# Altium integrated library NXP Microcontrollers ARM7.IntLib: 82 symbols (part 10 of 11)
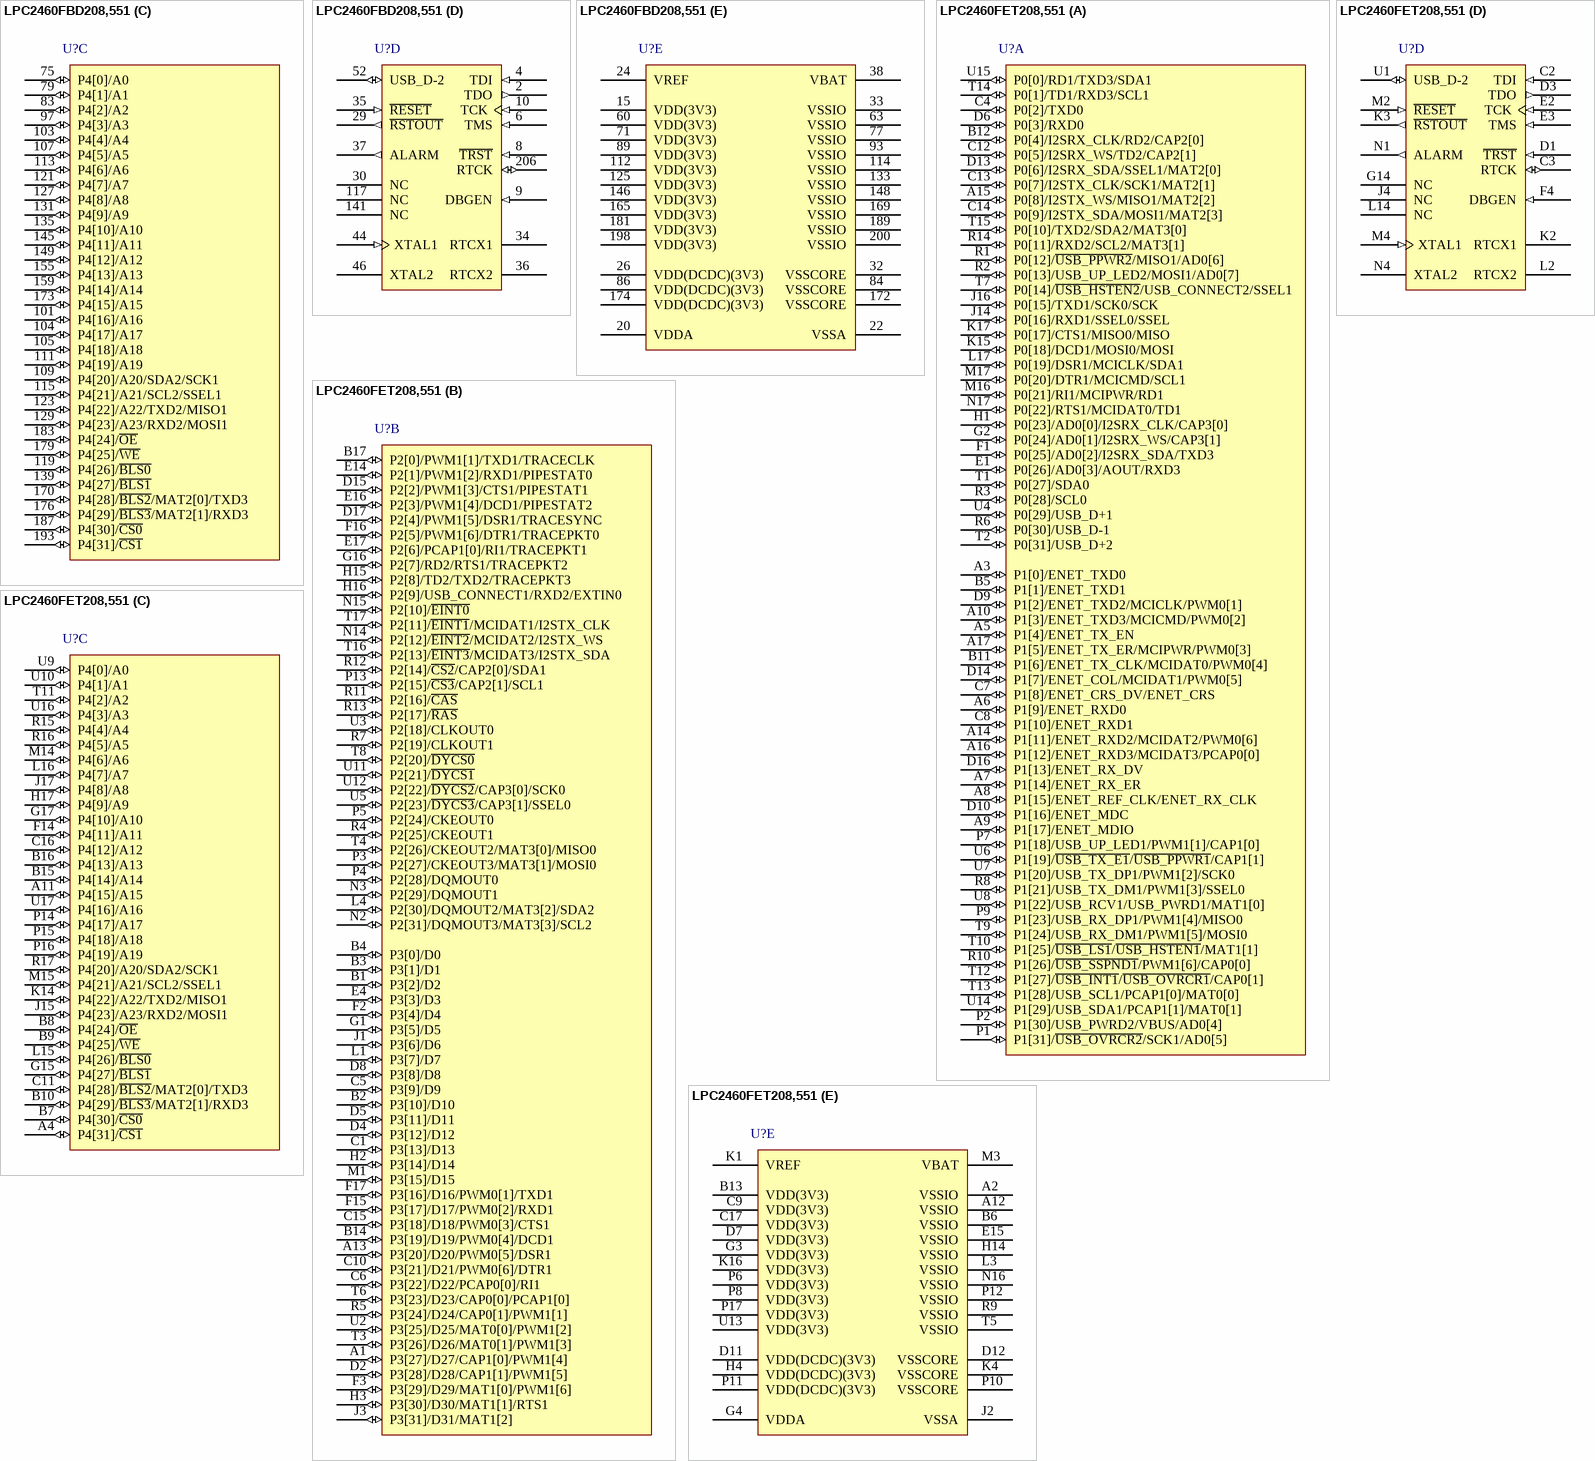
[diagram p44: symbols LPC2460FBD208,551 to LPC2460FET208,551]

## LPC2460FET208,551
designator U?
16/32-bit ARM7 Microcontroller, 160 I/O, 98 kB RAM, -40 to 85 degC, 208-Ball TFBGA, Tray; Manufacturer: NXP Semiconductors; PartNumber: LPC2460FET208,551; # of timers: 4; ADC (bits): 10; ADC Channels: 8; CAN: 2; Ethernet: 1; fmax [max] (MHz): 72; I/O Pins: 160; I2C: 3; PLL: Y; PWM: 12; RAM (KB): 98; Timer (bits): 32; DatasheetVersion: Rev. 6.2; PackageVersion: Jun-06; PackageReference: SOT950-1; PackageDescription: 208-Ball Plastic Thin Fine-Pitch Ball Grid Array Package, Body 15 x 15 mm, Pitch 0.8 mm; Supplier 1: Digi-Key; Supplier Part Number 1: 568-4260-ND; Supplier 2: Mouser; Supplier Part Number 2: 771-LPC2460FET208-S; Core: ARM7; Packing: Tray; SPI: 1; SSP: 2; UART: 4; USB: 2; Mounting Technology: Surface Mount; ComponentLink1Description: Manufacturer URL; ComponentLink1URL: http://www.nxp.com/; ComponentLink2Description: Datasheet; ComponentLink2URL: http://www.nxp.com/documents/data_sheet/LPC2420_60.pdf; ComponentLink3Description: Package Specification; ComponentLink3URL: http://www.nxp.com/documents/outline_drawing/sot950-1_po.pdf
footprint NXP-SOT950-1_V (BGA, 208-Balls, Body 15x15mm, Pitch 0.8mm)
part A pins: A3 P1[0]/ENET_TXD0 (io), A5 P1[4]/ENET_TX_EN (io), A6 P1[9]/ENET_RXD0 (io), A7 P1[14]/ENET_RX_ER (io), A8 P1[15]/ENET_REF_CLK/ENET_RX_CLK (io), A9 P1[17]/ENET_MDIO (io), A10 P1[3]/ENET_TXD3/MCICMD/PWM0[2] (io), A14 P1[11]/ENET_RXD2/MCIDAT2/PWM0[6] (io), A15 P0[8]/I2STX_WS/MISO1/MAT2[2] (io), A16 P1[12]/ENET_RXD3/MCIDAT3/PCAP0[0] (io), A17 P1[5]/ENET_TX_ER/MCIPWR/PWM0[3] (io), B5 P1[1]/ENET_TXD1 (io), B11 P1[6]/ENET_TX_CLK/MCIDAT0/PWM0[4] (io), B12 P0[4]/I2SRX_CLK/RD2/CAP2[0] (io), C4 P0[2]/TXD0 (io), C7 P1[8]/ENET_CRS_DV/ENET_CRS (io), C8 P1[10]/ENET_RXD1 (io), C12 P0[5]/I2SRX_WS/TD2/CAP2[1] (io), C13 P0[7]/I2STX_CLK/SCK1/MAT2[1] (io), C14 P0[9]/I2STX_SDA/MOSI1/MAT2[3] (io), D6 P0[3]/RXD0 (io), D9 P1[2]/ENET_TXD2/MCICLK/PWM0[1] (io), D10 P1[16]/ENET_MDC (io), D13 P0[6]/I2SRX_SDA/SSEL1/MAT2[0] (io), D14 P1[7]/ENET_COL/MCIDAT1/PWM0[5] (io), D16 P1[13]/ENET_RX_DV (io), E1 P0[26]/AD0[3]/AOUT/RXD3 (io), F1 P0[25]/AD0[2]/I2SRX_SDA/TXD3 (io), G2 P0[24]/AD0[1]/I2SRX_WS/CAP3[1] (io), H1 P0[23]/AD0[0]/I2SRX_CLK/CAP3[0] (io), J14 P0[16]/RXD1/SSEL0/SSEL (io), J16 P0[15]/TXD1/SCK0/SCK (io), K15 P0[18]/DCD1/MOSI0/MOSI (io), K17 P0[17]/CTS1/MISO0/MISO (io), L17 P0[19]/DSR1/MCICLK/SDA1 (io), M16 P0[21]/RI1/MCIPWR/RD1 (io), M17 P0[20]/DTR1/MCICMD/SCL1 (io), N17 P0[22]/RTS1/MCIDAT0/TD1 (io), P1 P1[31]/~{USB_OVRCR2}/SCK1/AD0[5] (io), P2 P1[30]/USB_PWRD2/VBUS/AD0[4] (io), P7 P1[18]/USB_UP_LED1/PWM1[1]/CAP1[0] (io), P9 P1[23]/USB_RX_DP1/PWM1[4]/MISO0 (io), R1 P0[12]/~{USB_PPWR2}/MISO1/AD0[6] (io), R2 P0[13]/USB_UP_LED2/MOSI1/AD0[7] (io), R3 P0[28]/SCL0 (io), R6 P0[30]/USB_D-1 (io), R8 P1[21]/USB_TX_DM1/PWM1[3]/SSEL0 (io), R10 P1[26]/~{USB_SSPND1}/PWM1[6]/CAP0[0] (io), R14 P0[11]/RXD2/SCL2/MAT3[1] (io), T1 P0[27]/SDA0 (io), T2 P0[31]/USB_D+2 (io), T7 P0[14]/~{USB_HSTEN2}/USB_CONNECT2/SSEL1 (io), T9 P1[24]/USB_RX_DM1/PWM1[5]/MOSI0 (io), T10 P1[25]/~{USB_LS1}/~{USB_HSTEN1}/MAT1[1] (io), T12 P1[27]/~{USB_INT1}/~{USB_OVRCR1}/CAP0[1] (io), T13 P1[28]/USB_SCL1/PCAP1[0]/MAT0[0] (io), T14 P0[1]/TD1/RXD3/SCL1 (io), T15 P0[10]/TXD2/SDA2/MAT3[0] (io), U4 P0[29]/USB_D+1 (io), U6 P1[19]/~{USB_TX_E1}/~{USB_PPWR1}/CAP1[1] (io), U7 P1[20]/USB_TX_DP1/PWM1[2]/SCK0 (io), U8 P1[22]/USB_RCV1/USB_PWRD1/MAT1[0] (io), U14 P1[29]/USB_SDA1/PCAP1[1]/MAT0[1] (io), U15 P0[0]/RD1/TXD3/SDA1 (io)
part B pins: A1 P3[27]/D27/CAP1[0]/PWM1[4] (io), A13 P3[20]/D20/PWM0[5]/DSR1 (io), B1 P3[2]/D2 (io), B2 P3[10]/D10 (io), B3 P3[1]/D1 (io), B4 P3[0]/D0 (io), B14 P3[19]/D19/PWM0[4]/DCD1 (io), B17 P2[0]/PWM1[1]/TXD1/TRACECLK (io), C1 P3[13]/D13 (io), C5 P3[9]/D9 (io), C6 P3[22]/D22/PCAP0[0]/RI1 (io), C10 P3[21]/D21/PWM0[6]/DTR1 (io), C15 P3[18]/D18/PWM0[3]/CTS1 (io), D2 P3[28]/D28/CAP1[1]/PWM1[5] (io), D4 P3[12]/D12 (io), D5 P3[11]/D11 (io), D8 P3[8]/D8 (io), D15 P2[2]/PWM1[3]/CTS1/PIPESTAT1 (io), D17 P2[4]/PWM1[5]/DSR1/TRACESYNC (io), E4 P3[3]/D3 (io), E14 P2[1]/PWM1[2]/RXD1/PIPESTAT0 (io), E16 P2[3]/PWM1[4]/DCD1/PIPESTAT2 (io), E17 P2[6]/PCAP1[0]/RI1/TRACEPKT1 (io), F2 P3[4]/D4 (io), F3 P3[29]/D29/MAT1[0]/PWM1[6] (io), F15 P3[17]/D17/PWM0[2]/RXD1 (io), F16 P2[5]/PWM1[6]/DTR1/TRACEPKT0 (io), F17 P3[16]/D16/PWM0[1]/TXD1 (io), G1 P3[5]/D5 (io), G16 P2[7]/RD2/RTS1/TRACEPKT2 (io), H2 P3[14]/D14 (io), H3 P3[30]/D30/MAT1[1]/RTS1 (io), H15 P2[8]/TD2/TXD2/TRACEPKT3 (io), H16 P2[9]/USB_CONNECT1/RXD2/EXTIN0 (io), J1 P3[6]/D6 (io), J3 P3[31]/D31/MAT1[2] (io), L1 P3[7]/D7 (io), L4 P2[30]/DQMOUT2/MAT3[2]/SDA2 (io), M1 P3[15]/D15 (io), N2 P2[31]/DQMOUT3/MAT3[3]/SCL2 (io), N3 P2[29]/DQMOUT1 (io), N14 P2[12]/~{EINT2}/MCIDAT2/I2STX_WS (io), N15 P2[10]/~{EINT0} (io), P3 P2[27]/CKEOUT3/MAT3[1]/MOSI0 (io), P4 P2[28]/DQMOUT0 (io), P5 P2[24]/CKEOUT0 (io), P13 P2[15]/~{CS3}/CAP2[1]/SCL1 (io), R4 P2[25]/CKEOUT1 (io), R5 P3[24]/D24/CAP0[1]/PWM1[1] (io), R7 P2[19]/CLKOUT1 (io), R11 P2[16]/~{CAS} (io), R12 P2[14]/~{CS2}/CAP2[0]/SDA1 (io), R13 P2[17]/~{RAS} (io), T3 P3[26]/D26/MAT0[1]/PWM1[3] (io), T4 P2[26]/CKEOUT2/MAT3[0]/MISO0 (io), T6 P3[23]/D23/CAP0[0]/PCAP1[0] (io), T8 P2[20]/~{DYCS0} (io), T16 P2[13]/~{EINT3}/MCIDAT3/I2STX_SDA (io), T17 P2[11]/~{EINT1}/MCIDAT1/I2STX_CLK (io), U2 P3[25]/D25/MAT0[0]/PWM1[2] (io), U3 P2[18]/CLKOUT0 (io), U5 P2[23]/~{DYCS3}/CAP3[1]/SSEL0 (io), U11 P2[21]/~{DYCS1} (io), U12 P2[22]/~{DYCS2}/CAP3[0]/SCK0 (io)
part C pins: A4 P4[31]/~{CS1} (io), A11 P4[15]/A15 (io), B7 P4[30]/~{CS0} (io), B8 P4[24]/~{OE} (io), B9 P4[25]/~{WE} (io), B10 P4[29]/~{BLS3}/MAT2[1]/RXD3 (io), B15 P4[14]/A14 (io), B16 P4[13]/A13 (io), C11 P4[28]/~{BLS2}/MAT2[0]/TXD3 (io), C16 P4[12]/A12 (io), F14 P4[11]/A11 (io), G15 P4[27]/~{BLS1} (io), G17 P4[10]/A10 (io), H17 P4[9]/A9 (io), J15 P4[23]/A23/RXD2/MOSI1 (io), J17 P4[8]/A8 (io), K14 P4[22]/A22/TXD2/MISO1 (io), L15 P4[26]/~{BLS0} (io), L16 P4[7]/A7 (io), M14 P4[6]/A6 (io), M15 P4[21]/A21/SCL2/SSEL1 (io), P14 P4[17]/A17 (io), P15 P4[18]/A18 (io), P16 P4[19]/A19 (io), R15 P4[4]/A4 (io), R16 P4[5]/A5 (io), R17 P4[20]/A20/SDA2/SCK1 (io), T11 P4[2]/A2 (io), U9 P4[0]/A0 (io), U10 P4[1]/A1 (io), U16 P4[3]/A3 (io), U17 P4[16]/A16 (io)
part D pins: C2 TDI (in) "TDI - Test Data In for JTAG interface.", C3 RTCK (io) "RTCK - JTAG interface control signal.", D1 ~{TRST} (in) "T\R\S\T\ - Test Reset for JTAG interface.", D3 TDO (out) "TDO - Test Data Out for JTAG interface.", E2 TCK (in) "TCK - Test Clock for JTAG interface. This clock must be slower than 1 ⁄ 6 of the CPU clock (CCLK) for the JTAG interface to operate.", E3 TMS (in) "TMS - Test Mode Select for JTAG interface.", F4 DBGEN (in) "DBGEN - JTAG interface control signal. Also used for boundary scanning.", G14 NC "not connected pins: These pins must be left unconnected (floating).", J4 NC "not connected pins: These pins must be left unconnected (floating).", K2 RTCX1 "Input to the RTC oscillator circuit.", K3 ~{RSTOUT} (out) "R\S\T\O\U\T\ - This is a 3.3 V pin. LOW on this pin indicates LPC2420/2460 being in Reset state.", L2 RTCX2 "Output from the RTC oscillator circuit.", L14 NC "not connected pins: These pins must be left unconnected (floating).", M2 ~{RESET} (in) "external reset input: A LOW on this pin resets the device, causing I/O ports and peripherals to take on their default states, and processor execution to begin at address 0. TTL with hysteresis, 5 V tolerant.", M4 XTAL1 (in) "Input to the oscillator circuit and internal clock generator circuits.", N1 ALARM (out) "ALARM - RTC controlled output. This is a 1.8 V pin. It goes HIGH when a RTC alarm is generated.", N4 XTAL2 "Output from the oscillator amplifier.", U1 USB_D-2 (io) "USB_D-2 - USB port 2 bidirectional D-line."
part E pins: A2 VSSIO (power) "ground: 0 V reference for the digital IO pins.", A12 VSSIO (power) "ground: 0 V reference for the digital IO pins.", B6 VSSIO (power) "ground: 0 V reference for the digital IO pins.", B13 VDD(3V3) (power) "3.3 V supply voltage: This is the power supply voltage for the I/O ports.", C9 VDD(3V3) (power) "3.3 V supply voltage: This is the power supply voltage for the I/O ports.", C17 VDD(3V3) (power) "3.3 V supply voltage: This is the power supply voltage for the I/O ports.", D7 VDD(3V3) (power) "3.3 V supply voltage: This is the power supply voltage for the I/O ports.", D11 VDD(DCDC)(3V3) (power) "3.3 V DC-to-DC converter supply voltage: This is the power supply for the on-chip DC-to-DC converter.", D12 VSSCORE (power) "ground: 0 V reference for the core.", E15 VSSIO (power) "ground: 0 V reference for the digital IO pins.", G3 VDD(3V3) (power) "3.3 V supply voltage: This is the power supply voltage for the I/O ports.", G4 VDDA (power) "analog 3.3 V pad supply voltage: This should be nominally the same voltage as VDD(3V3) but should be isolated to minimize noise and error.This voltage is used to power the ADC and DAC.", H4 VDD(DCDC)(3V3) (power) "3.3 V DC-to-DC converter supply voltage: This is the power supply for the on-chip DC-to-DC converter.", H14 VSSIO (power) "ground: 0 V reference for the digital IO pins.", J2 VSSA (power) "analog ground: 0 V reference. This should nominally be the same voltage as VSSIO/VSSCORE, but should be isolated to minimize noise and error.", K1 VREF "ADC reference: This should be nominally the same voltage as VDD(3V3) but should be isolated to minimize noise and error. The level on this pin is used as a reference for ADC and DAC.", K4 VSSCORE (power) "ground: 0 V reference for the core.", K16 VDD(3V3) (power) "3.3 V supply voltage: This is the power supply voltage for the I/O ports.", L3 VSSIO (power) "ground: 0 V reference for the digital IO pins.", M3 VBAT (power) "RTC power supply: 3.3 V on this pin supplies the power to the RTC peripheral.", N16 VSSIO (power) "ground: 0 V reference for the digital IO pins.", P6 VDD(3V3) (power) "3.3 V supply voltage: This is the power supply voltage for the I/O ports.", P8 VDD(3V3) (power) "3.3 V supply voltage: This is the power supply voltage for the I/O ports.", P10 VSSCORE (power) "ground: 0 V reference for the core.", P11 VDD(DCDC)(3V3) (power) "3.3 V DC-to-DC converter supply voltage: This is the power supply for the on-chip DC-to-DC converter.", P12 VSSIO (power) "ground: 0 V reference for the digital IO pins.", P17 VDD(3V3) (power) "3.3 V supply voltage: This is the power supply voltage for the I/O ports.", R9 VSSIO (power) "ground: 0 V reference for the digital IO pins.", T5 VSSIO (power) "ground: 0 V reference for the digital IO pins.", U13 VDD(3V3) (power) "3.3 V supply voltage: This is the power supply voltage for the I/O ports."

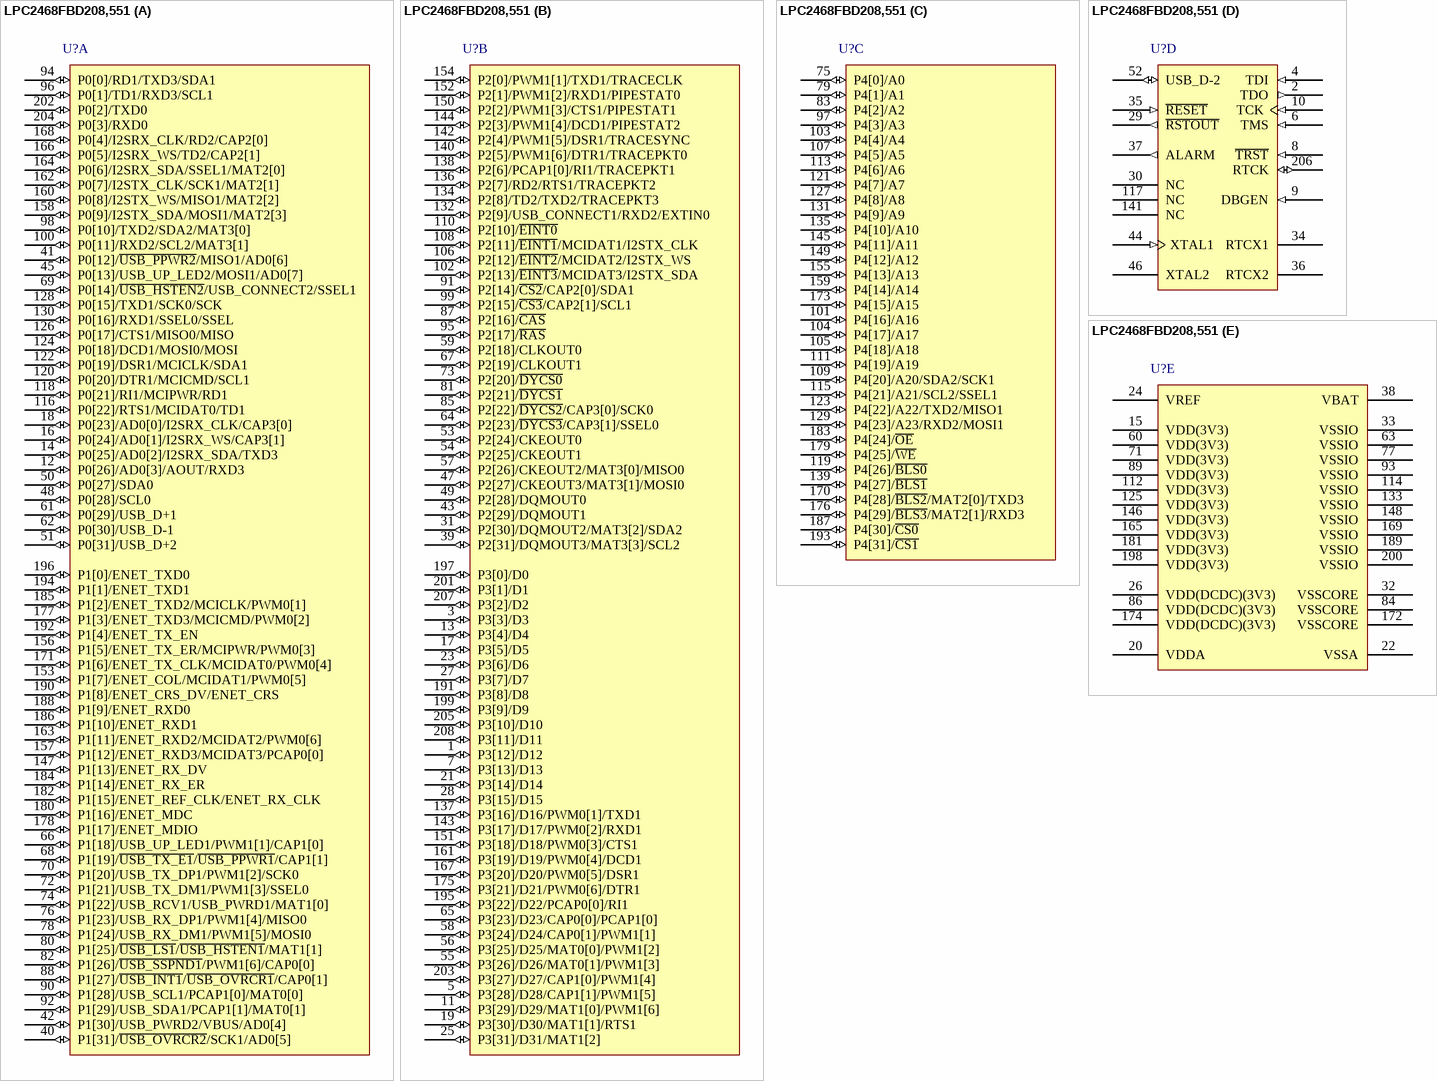
[diagram p28: symbol LPC2468FBD208,551]

## LPC2468FBD208,551
designator U?
16/32-bit ARM7 Microcontroller, 160 I/O, 512 kB Flash, 98 kB RAM, -40 to 85 degC, 208-Pin LQFP, Tray; Manufacturer: NXP Semiconductors; PartNumber: LPC2468FBD208,551; # of timers: 4; ADC (bits): 10; ADC Channels: 8; CAN: 2; Ethernet: 1; Flash (KB): 512; fmax [max] (MHz): 72; I/O Pins: 160; I2C: 3; PLL: Y; PWM: 12; RAM (KB): 98; Timer (bits): 32; DatasheetVersion: Rev. 6.2; PackageVersion: Feb-03; PackageReference: SOT459-1; PackageDescription: 208-Pin Plastic Low Profile Quad Flat Package, Body 28 x 28 mm, Pitch 0.5 mm; Supplier 1: Digi-Key; Supplier Part Number 1: 568-4261-ND; Supplier 2: Farnell; Supplier Part Number 2: 1524647; Supplier 3: Newark; Supplier Part Number 3: 70R5662; Supplier 4: Mouser; Supplier Part Number 4: 771-LPC2468FBD208-S; Core: ARM7; Packing: Tray; SPI: 1; SSP: 2; UART: 4; USB: 2; Mounting Technology: Surface Mount; Code_JEDEC: MS-026; ComponentLink1Description: Manufacturer URL; ComponentLink1URL: http://www.nxp.com/; ComponentLink2Description: Datasheet; ComponentLink2URL: http://www.nxp.com/documents/data_sheet/LPC2468.pdf; ComponentLink3Description: Package Specification; ComponentLink3URL: http://www.nxp.com/documents/outline_drawing/sot459-1_po.pdf
footprint NXP-SOT459-1_V (QFP, 208-Leads, Body 28x28mm, Pitch 0.5mm)
part A pins: 12 P0[26]/AD0[3]/AOUT/RXD3 (io), 14 P0[25]/AD0[2]/I2SRX_SDA/TXD3 (io), 16 P0[24]/AD0[1]/I2SRX_WS/CAP3[1] (io), 18 P0[23]/AD0[0]/I2SRX_CLK/CAP3[0] (io), 40 P1[31]/~{USB_OVRCR2}/SCK1/AD0[5] (io), 41 P0[12]/~{USB_PPWR2}/MISO1/AD0[6] (io), 42 P1[30]/USB_PWRD2/VBUS/AD0[4] (io), 45 P0[13]/USB_UP_LED2/MOSI1/AD0[7] (io), 48 P0[28]/SCL0 (io), 50 P0[27]/SDA0 (io), 51 P0[31]/USB_D+2 (io), 61 P0[29]/USB_D+1 (io), 62 P0[30]/USB_D-1 (io), 66 P1[18]/USB_UP_LED1/PWM1[1]/CAP1[0] (io), 68 P1[19]/~{USB_TX_E1}/~{USB_PPWR1}/CAP1[1] (io), 69 P0[14]/~{USB_HSTEN2}/USB_CONNECT2/SSEL1 (io), 70 P1[20]/USB_TX_DP1/PWM1[2]/SCK0 (io), 72 P1[21]/USB_TX_DM1/PWM1[3]/SSEL0 (io), 74 P1[22]/USB_RCV1/USB_PWRD1/MAT1[0] (io), 76 P1[23]/USB_RX_DP1/PWM1[4]/MISO0 (io), 78 P1[24]/USB_RX_DM1/PWM1[5]/MOSI0 (io), 80 P1[25]/~{USB_LS1}/~{USB_HSTEN1}/MAT1[1] (io), 82 P1[26]/~{USB_SSPND1}/PWM1[6]/CAP0[0] (io), 88 P1[27]/~{USB_INT1}/~{USB_OVRCR1}/CAP0[1] (io), 90 P1[28]/USB_SCL1/PCAP1[0]/MAT0[0] (io), 92 P1[29]/USB_SDA1/PCAP1[1]/MAT0[1] (io), 94 P0[0]/RD1/TXD3/SDA1 (io), 96 P0[1]/TD1/RXD3/SCL1 (io), 98 P0[10]/TXD2/SDA2/MAT3[0] (io), 100 P0[11]/RXD2/SCL2/MAT3[1] (io), 116 P0[22]/RTS1/MCIDAT0/TD1 (io), 118 P0[21]/RI1/MCIPWR/RD1 (io), 120 P0[20]/DTR1/MCICMD/SCL1 (io), 122 P0[19]/DSR1/MCICLK/SDA1 (io), 124 P0[18]/DCD1/MOSI0/MOSI (io), 126 P0[17]/CTS1/MISO0/MISO (io), 128 P0[15]/TXD1/SCK0/SCK (io), 130 P0[16]/RXD1/SSEL0/SSEL (io), 147 P1[13]/ENET_RX_DV (io), 153 P1[7]/ENET_COL/MCIDAT1/PWM0[5] (io), 156 P1[5]/ENET_TX_ER/MCIPWR/PWM0[3] (io), 157 P1[12]/ENET_RXD3/MCIDAT3/PCAP0[0] (io), 158 P0[9]/I2STX_SDA/MOSI1/MAT2[3] (io), 160 P0[8]/I2STX_WS/MISO1/MAT2[2] (io), 162 P0[7]/I2STX_CLK/SCK1/MAT2[1] (io), 163 P1[11]/ENET_RXD2/MCIDAT2/PWM0[6] (io), 164 P0[6]/I2SRX_SDA/SSEL1/MAT2[0] (io), 166 P0[5]/I2SRX_WS/TD2/CAP2[1] (io), 168 P0[4]/I2SRX_CLK/RD2/CAP2[0] (io), 171 P1[6]/ENET_TX_CLK/MCIDAT0/PWM0[4] (io), 177 P1[3]/ENET_TXD3/MCICMD/PWM0[2] (io), 178 P1[17]/ENET_MDIO (io), 180 P1[16]/ENET_MDC (io), 182 P1[15]/ENET_REF_CLK/ENET_RX_CLK (io), 184 P1[14]/ENET_RX_ER (io), 185 P1[2]/ENET_TXD2/MCICLK/PWM0[1] (io), 186 P1[10]/ENET_RXD1 (io), 188 P1[9]/ENET_RXD0 (io), 190 P1[8]/ENET_CRS_DV/ENET_CRS (io), 192 P1[4]/ENET_TX_EN (io), 194 P1[1]/ENET_TXD1 (io), 196 P1[0]/ENET_TXD0 (io), 202 P0[2]/TXD0 (io), 204 P0[3]/RXD0 (io)
part B pins: 1 P3[12]/D12 (io), 3 P3[3]/D3 (io), 5 P3[28]/D28/CAP1[1]/PWM1[5] (io), 7 P3[13]/D13 (io), 11 P3[29]/D29/MAT1[0]/PWM1[6] (io), 13 P3[4]/D4 (io), 17 P3[5]/D5 (io), 19 P3[30]/D30/MAT1[1]/RTS1 (io), 21 P3[14]/D14 (io), 23 P3[6]/D6 (io), 25 P3[31]/D31/MAT1[2] (io), 27 P3[7]/D7 (io), 28 P3[15]/D15 (io), 31 P2[30]/DQMOUT2/MAT3[2]/SDA2 (io), 39 P2[31]/DQMOUT3/MAT3[3]/SCL2 (io), 43 P2[29]/DQMOUT1 (io), 47 P2[27]/CKEOUT3/MAT3[1]/MOSI0 (io), 49 P2[28]/DQMOUT0 (io), 53 P2[24]/CKEOUT0 (io), 54 P2[25]/CKEOUT1 (io), 55 P3[26]/D26/MAT0[1]/PWM1[3] (io), 56 P3[25]/D25/MAT0[0]/PWM1[2] (io), 57 P2[26]/CKEOUT2/MAT3[0]/MISO0 (io), 58 P3[24]/D24/CAP0[1]/PWM1[1] (io), 59 P2[18]/CLKOUT0 (io), 64 P2[23]/~{DYCS3}/CAP3[1]/SSEL0 (io), 65 P3[23]/D23/CAP0[0]/PCAP1[0] (io), 67 P2[19]/CLKOUT1 (io), 73 P2[20]/~{DYCS0} (io), 81 P2[21]/~{DYCS1} (io), 85 P2[22]/~{DYCS2}/CAP3[0]/SCK0 (io), 87 P2[16]/~{CAS} (io), 91 P2[14]/~{CS2}/CAP2[0]/SDA1 (io), 95 P2[17]/~{RAS} (io), 99 P2[15]/~{CS3}/CAP2[1]/SCL1 (io), 102 P2[13]/~{EINT3}/MCIDAT3/I2STX_SDA (io), 106 P2[12]/~{EINT2}/MCIDAT2/I2STX_WS (io), 108 P2[11]/~{EINT1}/MCIDAT1/I2STX_CLK (io), 110 P2[10]/~{EINT0} (io), 132 P2[9]/USB_CONNECT1/RXD2/EXTIN0 (io), 134 P2[8]/TD2/TXD2/TRACEPKT3 (io), 136 P2[7]/RD2/RTS1/TRACEPKT2 (io), 137 P3[16]/D16/PWM0[1]/TXD1 (io), 138 P2[6]/PCAP1[0]/RI1/TRACEPKT1 (io), 140 P2[5]/PWM1[6]/DTR1/TRACEPKT0 (io), 142 P2[4]/PWM1[5]/DSR1/TRACESYNC (io), 143 P3[17]/D17/PWM0[2]/RXD1 (io), 144 P2[3]/PWM1[4]/DCD1/PIPESTAT2 (io), 150 P2[2]/PWM1[3]/CTS1/PIPESTAT1 (io), 151 P3[18]/D18/PWM0[3]/CTS1 (io), 152 P2[1]/PWM1[2]/RXD1/PIPESTAT0 (io), 154 P2[0]/PWM1[1]/TXD1/TRACECLK (io), 161 P3[19]/D19/PWM0[4]/DCD1 (io), 167 P3[20]/D20/PWM0[5]/DSR1 (io), 175 P3[21]/D21/PWM0[6]/DTR1 (io), 191 P3[8]/D8 (io), 195 P3[22]/D22/PCAP0[0]/RI1 (io), 197 P3[0]/D0 (io), 199 P3[9]/D9 (io), 201 P3[1]/D1 (io), 203 P3[27]/D27/CAP1[0]/PWM1[4] (io), 205 P3[10]/D10 (io), 207 P3[2]/D2 (io), 208 P3[11]/D11 (io)
part C pins: 75 P4[0]/A0 (io), 79 P4[1]/A1 (io), 83 P4[2]/A2 (io), 97 P4[3]/A3 (io), 101 P4[16]/A16 (io), 103 P4[4]/A4 (io), 104 P4[17]/A17 (io), 105 P4[18]/A18 (io), 107 P4[5]/A5 (io), 109 P4[20]/A20/SDA2/SCK1 (io), 111 P4[19]/A19 (io), 113 P4[6]/A6 (io), 115 P4[21]/A21/SCL2/SSEL1 (io), 119 P4[26]/~{BLS0} (io), 121 P4[7]/A7 (io), 123 P4[22]/A22/TXD2/MISO1 (io), 127 P4[8]/A8 (io), 129 P4[23]/A23/RXD2/MOSI1 (io), 131 P4[9]/A9 (io), 135 P4[10]/A10 (io), 139 P4[27]/~{BLS1} (io), 145 P4[11]/A11 (io), 149 P4[12]/A12 (io), 155 P4[13]/A13 (io), 159 P4[14]/A14 (io), 170 P4[28]/~{BLS2}/MAT2[0]/TXD3 (io), 173 P4[15]/A15 (io), 176 P4[29]/~{BLS3}/MAT2[1]/RXD3 (io), 179 P4[25]/~{WE} (io), 183 P4[24]/~{OE} (io), 187 P4[30]/~{CS0} (io), 193 P4[31]/~{CS1} (io)
part D pins: 2 TDO (out) "TDO - Test Data Out for JTAG interface.", 4 TDI (in) "TDI - Test Data In for JTAG interface.", 6 TMS (in) "TMS - Test Mode Select for JTAG interface.", 8 ~{TRST} (in) "T\R\S\T\ - Test Reset for JTAG interface.", 9 DBGEN (in) "DBGEN - JTAG interface control signal. Also used for boundary scanning.", 10 TCK (in) "TCK - Test Clock for JTAG interface. This clock must be slower than 1/6 of the CPU clock (CCLK) for the JTAG interface to operate.", 29 ~{RSTOUT} (out) "R\S\T\O\U\T\ - This is a 3.3 V pin. LOW on this pin indicates LPC2468 being in Reset state.", 30 NC "not connected pins: These pins must be left unconnected (floating).", 34 RTCX1 "Input to the RTC oscillator circuit.", 35 ~{RESET} (in) "external reset input: A LOW on this pin resets the device, causing I/O ports and peripherals to take on their default states, and processor execution to begin at address 0. TTL with hysteresis, 5 V tolerant.", 36 RTCX2 "Output from the RTC oscillator circuit.", 37 ALARM (out) "ALARM - RTC controlled output. This is a 1.8 V pin. It goes HIGH when a RTC alarm is generated.", 44 XTAL1 (in) "Input to the oscillator circuit and internal clock generator circuits.", 46 XTAL2 "Output from the oscillator amplifier.", 52 USB_D-2 (io) "USB_D-2 - USB port 2 bidirectional D- line.", 117 NC "not connected pins: These pins must be left unconnected (floating).", 141 NC "not connected pins: These pins must be left unconnected (floating).", 206 RTCK (io) "RTCK - JTAG interface control signal."
part E pins: 15 VDD(3V3) (power) "3.3 V supply voltage: This is the power supply voltage for the I/O ports.", 20 VDDA (power) "analog 3.3 V pad supply voltage: This should be nominally the same voltage as VDD(3V3) but should be isolated to minimize noise and error. This voltage is used to power the ADC and DAC.", 22 VSSA (power) "analog ground: 0 V reference. This should nominally be the same voltage as VSSIO/VSSCORE, but should be isolated to minimize noise and error.", 24 VREF "ADC reference: This should be nominally the same voltage as VDD(3V3) but should be isolated to minimize noise and error. The level on this pin is used as a reference for ADC and DAC.", 26 VDD(DCDC)(3V3) (power) "3.3 V DC-to-DC converter supply voltage: This is the power supply for the on-chip DC-to-DC converter.", 32 VSSCORE (power) "ground: 0 V reference for the core.", 33 VSSIO (power) "ground: 0 V reference for the digital I/O pins.", 38 VBAT (power) "RTC power supply: 3.3 V on this pin supplies the power to the RTC.", 60 VDD(3V3) (power) "3.3 V supply voltage: This is the power supply voltage for the I/O ports.", 63 VSSIO (power) "ground: 0 V reference for the digital I/O pins.", 71 VDD(3V3) (power) "3.3 V supply voltage: This is the power supply voltage for the I/O ports.", 77 VSSIO (power) "ground: 0 V reference for the digital I/O pins.", 84 VSSCORE (power) "ground: 0 V reference for the core.", 86 VDD(DCDC)(3V3) (power) "3.3 V DC-to-DC converter supply voltage: This is the power supply for the on-chip DC-to-DC converter.", 89 VDD(3V3) (power) "3.3 V supply voltage: This is the power supply voltage for the I/O ports.", 93 VSSIO (power) "ground: 0 V reference for the digital I/O pins.", 112 VDD(3V3) (power) "3.3 V supply voltage: This is the power supply voltage for the I/O ports.", 114 VSSIO (power) "ground: 0 V reference for the digital I/O pins.", 125 VDD(3V3) (power) "3.3 V supply voltage: This is the power supply voltage for the I/O ports.", 133 VSSIO (power) "ground: 0 V reference for the digital I/O pins.", 146 VDD(3V3) (power) "3.3 V supply voltage: This is the power supply voltage for the I/O ports.", 148 VSSIO (power) "ground: 0 V reference for the digital I/O pins.", 165 VDD(3V3) (power) "3.3 V supply voltage: This is the power supply voltage for the I/O ports.", 169 VSSIO (power) "ground: 0 V reference for the digital I/O pins.", 172 VSSCORE (power) "ground: 0 V reference for the core.", 174 VDD(DCDC)(3V3) (power) "3.3 V DC-to-DC converter supply voltage: This is the power supply for the on-chip DC-to-DC converter.", 181 VDD(3V3) (power) "3.3 V supply voltage: This is the power supply voltage for the I/O ports.", 189 VSSIO (power) "ground: 0 V reference for the digital I/O pins.", 198 VDD(3V3) (power) "3.3 V supply voltage: This is the power supply voltage for the I/O ports.", 200 VSSIO (power) "ground: 0 V reference for the digital I/O pins."

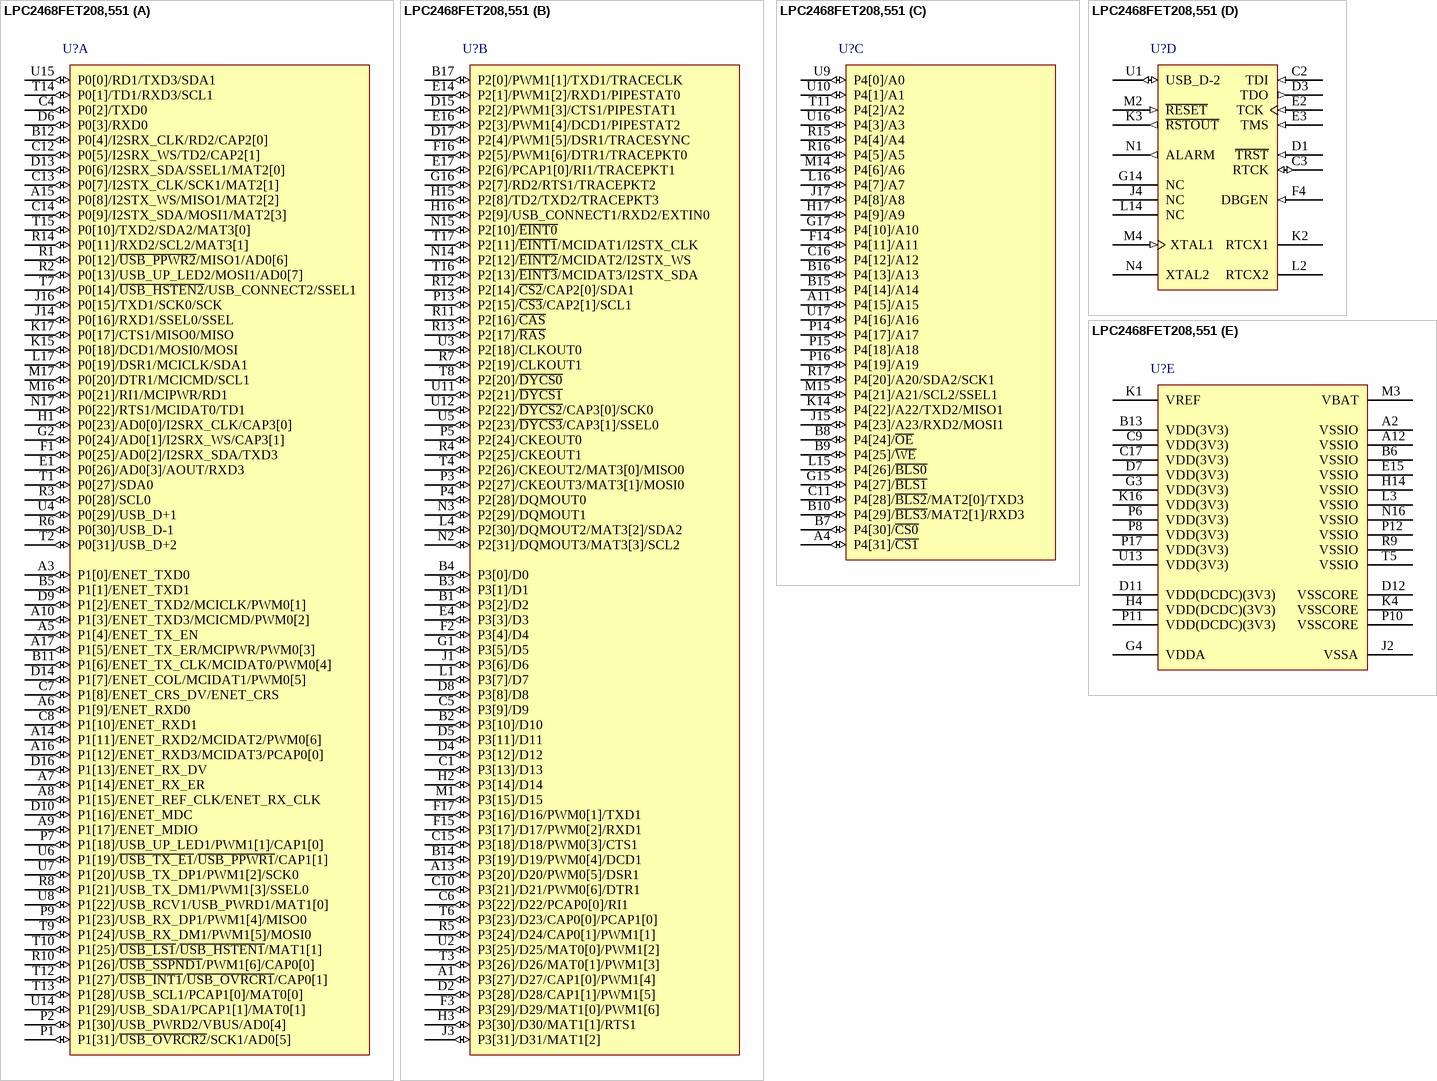
[diagram p29: symbol LPC2468FET208,551]

## LPC2468FET208,551
designator U?
16/32-bit ARM7 Microcontroller, 160 I/O, 512 kB Flash, 98 kB RAM, -40 to 85 degC, 208-Ball TFBGA, Tray; Manufacturer: NXP Semiconductors; PartNumber: LPC2468FET208,551; # of timers: 4; ADC (bits): 10; ADC Channels: 8; CAN: 2; Ethernet: 1; Flash (KB): 512; fmax [max] (MHz): 72; I/O Pins: 160; I2C: 3; PLL: Y; PWM: 12; RAM (KB): 98; Timer (bits): 32; DatasheetVersion: Rev. 6.2; PackageVersion: Jun-06; PackageReference: SOT950-1; PackageDescription: 208-Ball Plastic Thin Fine-Pitch Ball Grid Array Package, Body 15 x 15 mm, Pitch 0.8 mm; Supplier 1: Digi-Key; Supplier Part Number 1: 568-4262-ND; Supplier 2: Farnell; Supplier Part Number 2: 2314801; Supplier 3: Newark; Supplier Part Number 3: 70R5663; Supplier 4: Mouser; Supplier Part Number 4: 771-LPC2468FET208-S; Core: ARM7; Packing: Tray; SPI: 1; SSP: 2; UART: 4; USB: 2; Mounting Technology: Surface Mount; ComponentLink1Description: Manufacturer URL; ComponentLink1URL: http://www.nxp.com/; ComponentLink2Description: Datasheet; ComponentLink2URL: http://www.nxp.com/documents/data_sheet/LPC2468.pdf; ComponentLink3Description: Package Specification; ComponentLink3URL: http://www.nxp.com/documents/outline_drawing/sot950-1_po.pdf
footprint NXP-SOT950-1_V (BGA, 208-Balls, Body 15x15mm, Pitch 0.8mm)
part A pins: A3 P1[0]/ENET_TXD0 (io), A5 P1[4]/ENET_TX_EN (io), A6 P1[9]/ENET_RXD0 (io), A7 P1[14]/ENET_RX_ER (io), A8 P1[15]/ENET_REF_CLK/ENET_RX_CLK (io), A9 P1[17]/ENET_MDIO (io), A10 P1[3]/ENET_TXD3/MCICMD/PWM0[2] (io), A14 P1[11]/ENET_RXD2/MCIDAT2/PWM0[6] (io), A15 P0[8]/I2STX_WS/MISO1/MAT2[2] (io), A16 P1[12]/ENET_RXD3/MCIDAT3/PCAP0[0] (io), A17 P1[5]/ENET_TX_ER/MCIPWR/PWM0[3] (io), B5 P1[1]/ENET_TXD1 (io), B11 P1[6]/ENET_TX_CLK/MCIDAT0/PWM0[4] (io), B12 P0[4]/I2SRX_CLK/RD2/CAP2[0] (io), C4 P0[2]/TXD0 (io), C7 P1[8]/ENET_CRS_DV/ENET_CRS (io), C8 P1[10]/ENET_RXD1 (io), C12 P0[5]/I2SRX_WS/TD2/CAP2[1] (io), C13 P0[7]/I2STX_CLK/SCK1/MAT2[1] (io), C14 P0[9]/I2STX_SDA/MOSI1/MAT2[3] (io), D6 P0[3]/RXD0 (io), D9 P1[2]/ENET_TXD2/MCICLK/PWM0[1] (io), D10 P1[16]/ENET_MDC (io), D13 P0[6]/I2SRX_SDA/SSEL1/MAT2[0] (io), D14 P1[7]/ENET_COL/MCIDAT1/PWM0[5] (io), D16 P1[13]/ENET_RX_DV (io), E1 P0[26]/AD0[3]/AOUT/RXD3 (io), F1 P0[25]/AD0[2]/I2SRX_SDA/TXD3 (io), G2 P0[24]/AD0[1]/I2SRX_WS/CAP3[1] (io), H1 P0[23]/AD0[0]/I2SRX_CLK/CAP3[0] (io), J14 P0[16]/RXD1/SSEL0/SSEL (io), J16 P0[15]/TXD1/SCK0/SCK (io), K15 P0[18]/DCD1/MOSI0/MOSI (io), K17 P0[17]/CTS1/MISO0/MISO (io), L17 P0[19]/DSR1/MCICLK/SDA1 (io), M16 P0[21]/RI1/MCIPWR/RD1 (io), M17 P0[20]/DTR1/MCICMD/SCL1 (io), N17 P0[22]/RTS1/MCIDAT0/TD1 (io), P1 P1[31]/~{USB_OVRCR2}/SCK1/AD0[5] (io), P2 P1[30]/USB_PWRD2/VBUS/AD0[4] (io), P7 P1[18]/USB_UP_LED1/PWM1[1]/CAP1[0] (io), P9 P1[23]/USB_RX_DP1/PWM1[4]/MISO0 (io), R1 P0[12]/~{USB_PPWR2}/MISO1/AD0[6] (io), R2 P0[13]/USB_UP_LED2/MOSI1/AD0[7] (io), R3 P0[28]/SCL0 (io), R6 P0[30]/USB_D-1 (io), R8 P1[21]/USB_TX_DM1/PWM1[3]/SSEL0 (io), R10 P1[26]/~{USB_SSPND1}/PWM1[6]/CAP0[0] (io), R14 P0[11]/RXD2/SCL2/MAT3[1] (io), T1 P0[27]/SDA0 (io), T2 P0[31]/USB_D+2 (io), T7 P0[14]/~{USB_HSTEN2}/USB_CONNECT2/SSEL1 (io), T9 P1[24]/USB_RX_DM1/PWM1[5]/MOSI0 (io), T10 P1[25]/~{USB_LS1}/~{USB_HSTEN1}/MAT1[1] (io), T12 P1[27]/~{USB_INT1}/~{USB_OVRCR1}/CAP0[1] (io), T13 P1[28]/USB_SCL1/PCAP1[0]/MAT0[0] (io), T14 P0[1]/TD1/RXD3/SCL1 (io), T15 P0[10]/TXD2/SDA2/MAT3[0] (io), U4 P0[29]/USB_D+1 (io), U6 P1[19]/~{USB_TX_E1}/~{USB_PPWR1}/CAP1[1] (io), U7 P1[20]/USB_TX_DP1/PWM1[2]/SCK0 (io), U8 P1[22]/USB_RCV1/USB_PWRD1/MAT1[0] (io), U14 P1[29]/USB_SDA1/PCAP1[1]/MAT0[1] (io), U15 P0[0]/RD1/TXD3/SDA1 (io)
part B pins: A1 P3[27]/D27/CAP1[0]/PWM1[4] (io), A13 P3[20]/D20/PWM0[5]/DSR1 (io), B1 P3[2]/D2 (io), B2 P3[10]/D10 (io), B3 P3[1]/D1 (io), B4 P3[0]/D0 (io), B14 P3[19]/D19/PWM0[4]/DCD1 (io), B17 P2[0]/PWM1[1]/TXD1/TRACECLK (io), C1 P3[13]/D13 (io), C5 P3[9]/D9 (io), C6 P3[22]/D22/PCAP0[0]/RI1 (io), C10 P3[21]/D21/PWM0[6]/DTR1 (io), C15 P3[18]/D18/PWM0[3]/CTS1 (io), D2 P3[28]/D28/CAP1[1]/PWM1[5] (io), D4 P3[12]/D12 (io), D5 P3[11]/D11 (io), D8 P3[8]/D8 (io), D15 P2[2]/PWM1[3]/CTS1/PIPESTAT1 (io), D17 P2[4]/PWM1[5]/DSR1/TRACESYNC (io), E4 P3[3]/D3 (io), E14 P2[1]/PWM1[2]/RXD1/PIPESTAT0 (io), E16 P2[3]/PWM1[4]/DCD1/PIPESTAT2 (io), E17 P2[6]/PCAP1[0]/RI1/TRACEPKT1 (io), F2 P3[4]/D4 (io), F3 P3[29]/D29/MAT1[0]/PWM1[6] (io), F15 P3[17]/D17/PWM0[2]/RXD1 (io), F16 P2[5]/PWM1[6]/DTR1/TRACEPKT0 (io), F17 P3[16]/D16/PWM0[1]/TXD1 (io), G1 P3[5]/D5 (io), G16 P2[7]/RD2/RTS1/TRACEPKT2 (io), H2 P3[14]/D14 (io), H3 P3[30]/D30/MAT1[1]/RTS1 (io), H15 P2[8]/TD2/TXD2/TRACEPKT3 (io), H16 P2[9]/USB_CONNECT1/RXD2/EXTIN0 (io), J1 P3[6]/D6 (io), J3 P3[31]/D31/MAT1[2] (io), L1 P3[7]/D7 (io), L4 P2[30]/DQMOUT2/MAT3[2]/SDA2 (io), M1 P3[15]/D15 (io), N2 P2[31]/DQMOUT3/MAT3[3]/SCL2 (io), N3 P2[29]/DQMOUT1 (io), N14 P2[12]/~{EINT2}/MCIDAT2/I2STX_WS (io), N15 P2[10]/~{EINT0} (io), P3 P2[27]/CKEOUT3/MAT3[1]/MOSI0 (io), P4 P2[28]/DQMOUT0 (io), P5 P2[24]/CKEOUT0 (io), P13 P2[15]/~{CS3}/CAP2[1]/SCL1 (io), R4 P2[25]/CKEOUT1 (io), R5 P3[24]/D24/CAP0[1]/PWM1[1] (io), R7 P2[19]/CLKOUT1 (io), R11 P2[16]/~{CAS} (io), R12 P2[14]/~{CS2}/CAP2[0]/SDA1 (io), R13 P2[17]/~{RAS} (io), T3 P3[26]/D26/MAT0[1]/PWM1[3] (io), T4 P2[26]/CKEOUT2/MAT3[0]/MISO0 (io), T6 P3[23]/D23/CAP0[0]/PCAP1[0] (io), T8 P2[20]/~{DYCS0} (io), T16 P2[13]/~{EINT3}/MCIDAT3/I2STX_SDA (io), T17 P2[11]/~{EINT1}/MCIDAT1/I2STX_CLK (io), U2 P3[25]/D25/MAT0[0]/PWM1[2] (io), U3 P2[18]/CLKOUT0 (io), U5 P2[23]/~{DYCS3}/CAP3[1]/SSEL0 (io), U11 P2[21]/~{DYCS1} (io), U12 P2[22]/~{DYCS2}/CAP3[0]/SCK0 (io)
part C pins: A4 P4[31]/~{CS1} (io), A11 P4[15]/A15 (io), B7 P4[30]/~{CS0} (io), B8 P4[24]/~{OE} (io), B9 P4[25]/~{WE} (io), B10 P4[29]/~{BLS3}/MAT2[1]/RXD3 (io), B15 P4[14]/A14 (io), B16 P4[13]/A13 (io), C11 P4[28]/~{BLS2}/MAT2[0]/TXD3 (io), C16 P4[12]/A12 (io), F14 P4[11]/A11 (io), G15 P4[27]/~{BLS1} (io), G17 P4[10]/A10 (io), H17 P4[9]/A9 (io), J15 P4[23]/A23/RXD2/MOSI1 (io), J17 P4[8]/A8 (io), K14 P4[22]/A22/TXD2/MISO1 (io), L15 P4[26]/~{BLS0} (io), L16 P4[7]/A7 (io), M14 P4[6]/A6 (io), M15 P4[21]/A21/SCL2/SSEL1 (io), P14 P4[17]/A17 (io), P15 P4[18]/A18 (io), P16 P4[19]/A19 (io), R15 P4[4]/A4 (io), R16 P4[5]/A5 (io), R17 P4[20]/A20/SDA2/SCK1 (io), T11 P4[2]/A2 (io), U9 P4[0]/A0 (io), U10 P4[1]/A1 (io), U16 P4[3]/A3 (io), U17 P4[16]/A16 (io)
part D pins: C2 TDI (in) "TDI - Test Data In for JTAG interface.", C3 RTCK (io) "RTCK - JTAG interface control signal.", D1 ~{TRST} (in) "T\R\S\T\ - Test Reset for JTAG interface.", D3 TDO (out) "TDO - Test Data Out for JTAG interface.", E2 TCK (in) "TCK - Test Clock for JTAG interface. This clock must be slower than 1/6 of the CPU clock (CCLK) for the JTAG interface to operate.", E3 TMS (in) "TMS - Test Mode Select for JTAG interface.", F4 DBGEN (in) "DBGEN - JTAG interface control signal. Also used for boundary scanning.", G14 NC "not connected pins: These pins must be left unconnected (floating).", J4 NC "not connected pins: These pins must be left unconnected (floating).", K2 RTCX1 "Input to the RTC oscillator circuit.", K3 ~{RSTOUT} (out) "R\S\T\O\U\T\ - This is a 3.3 V pin. LOW on this pin indicates LPC2468 being in Reset state.", L2 RTCX2 "Output from the RTC oscillator circuit.", L14 NC "not connected pins: These pins must be left unconnected (floating).", M2 ~{RESET} (in) "external reset input: A LOW on this pin resets the device, causing I/O ports and peripherals to take on their default states, and processor execution to begin at address 0. TTL with hysteresis, 5 V tolerant.", M4 XTAL1 (in) "Input to the oscillator circuit and internal clock generator circuits.", N1 ALARM (out) "ALARM - RTC controlled output. This is a 1.8 V pin. It goes HIGH when a RTC alarm is generated.", N4 XTAL2 "Output from the oscillator amplifier.", U1 USB_D-2 (io) "USB_D-2 - USB port 2 bidirectional D- line."
part E pins: A2 VSSIO (power) "ground: 0 V reference for the digital I/O pins.", A12 VSSIO (power) "ground: 0 V reference for the digital I/O pins.", B6 VSSIO (power) "ground: 0 V reference for the digital I/O pins.", B13 VDD(3V3) (power) "3.3 V supply voltage: This is the power supply voltage for the I/O ports.", C9 VDD(3V3) (power) "3.3 V supply voltage: This is the power supply voltage for the I/O ports.", C17 VDD(3V3) (power) "3.3 V supply voltage: This is the power supply voltage for the I/O ports.", D7 VDD(3V3) (power) "3.3 V supply voltage: This is the power supply voltage for the I/O ports.", D11 VDD(DCDC)(3V3) (power) "3.3 V DC-to-DC converter supply voltage: This is the power supply for the on-chip DC-to-DC converter.", D12 VSSCORE (power) "ground: 0 V reference for the core.", E15 VSSIO (power) "ground: 0 V reference for the digital I/O pins.", G3 VDD(3V3) (power) "3.3 V supply voltage: This is the power supply voltage for the I/O ports.", G4 VDDA (power) "analog 3.3 V pad supply voltage: This should be nominally the same voltage as VDD(3V3) but should be isolated to minimize noise and error. This voltage is used to power the ADC and DAC.", H4 VDD(DCDC)(3V3) (power) "3.3 V DC-to-DC converter supply voltage: This is the power supply for the on-chip DC-to-DC converter.", H14 VSSIO (power) "ground: 0 V reference for the digital I/O pins.", J2 VSSA (power) "analog ground: 0 V reference. This should nominally be the same voltage as VSSIO/VSSCORE, but should be isolated to minimize noise and error.", K1 VREF "ADC reference: This should be nominally the same voltage as VDD(3V3) but should be isolated to minimize noise and error. The level on this pin is used as a reference for ADC and DAC.", K4 VSSCORE (power) "ground: 0 V reference for the core.", K16 VDD(3V3) (power) "3.3 V supply voltage: This is the power supply voltage for the I/O ports.", L3 VSSIO (power) "ground: 0 V reference for the digital I/O pins.", M3 VBAT (power) "RTC power supply: 3.3 V on this pin supplies the power to the RTC.", N16 VSSIO (power) "ground: 0 V reference for the digital I/O pins.", P6 VDD(3V3) (power) "3.3 V supply voltage: This is the power supply voltage for the I/O ports.", P8 VDD(3V3) (power) "3.3 V supply voltage: This is the power supply voltage for the I/O ports.", P10 VSSCORE (power) "ground: 0 V reference for the core.", P11 VDD(DCDC)(3V3) (power) "3.3 V DC-to-DC converter supply voltage: This is the power supply for the on-chip DC-to-DC converter.", P12 VSSIO (power) "ground: 0 V reference for the digital I/O pins.", P17 VDD(3V3) (power) "3.3 V supply voltage: This is the power supply voltage for the I/O ports.", R9 VSSIO (power) "ground: 0 V reference for the digital I/O pins.", T5 VSSIO (power) "ground: 0 V reference for the digital I/O pins.", U13 VDD(3V3) (power) "3.3 V supply voltage: This is the power supply voltage for the I/O ports."

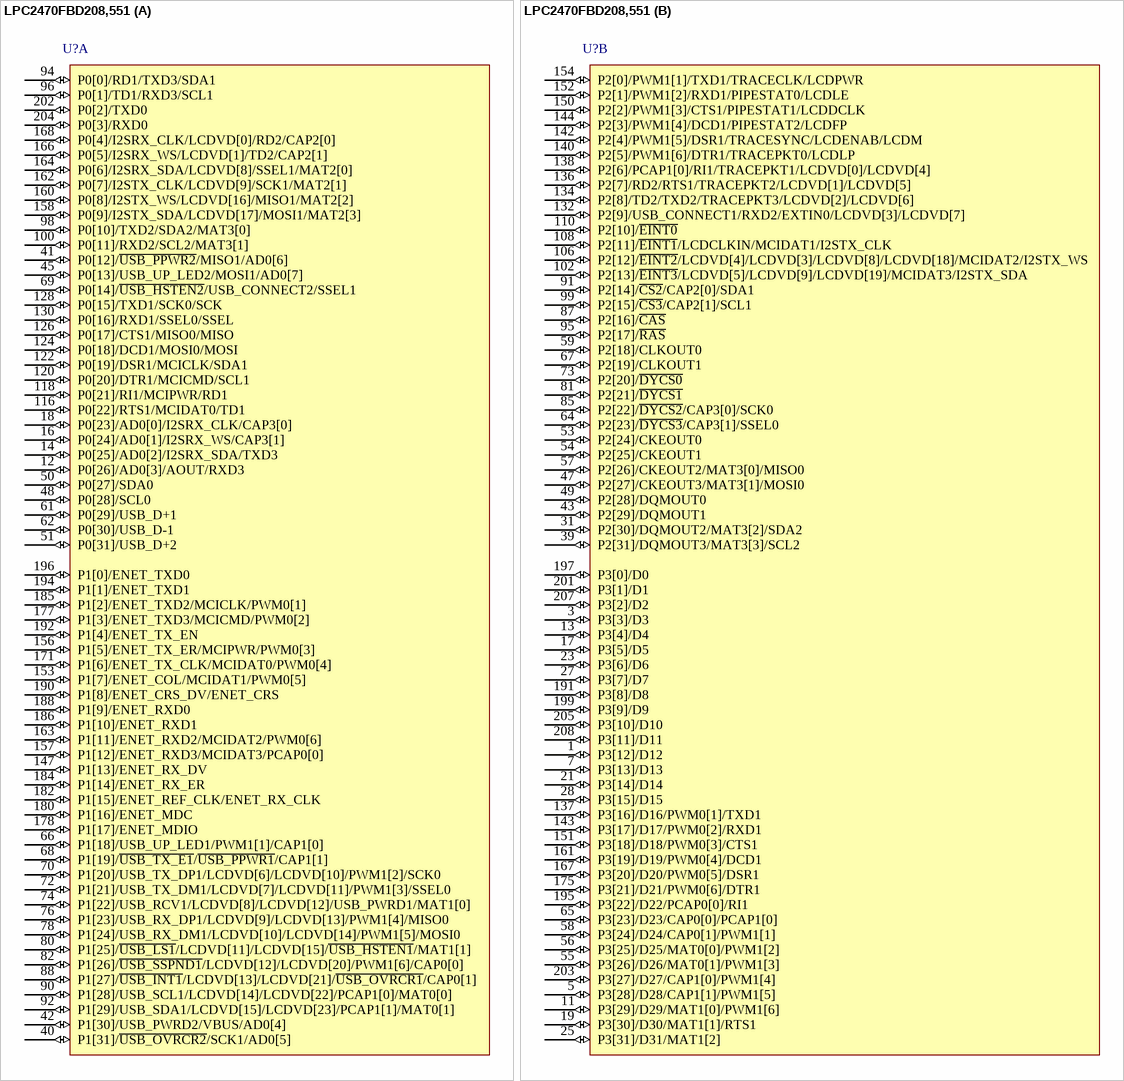
[diagram p30: symbol LPC2470FBD208,551]

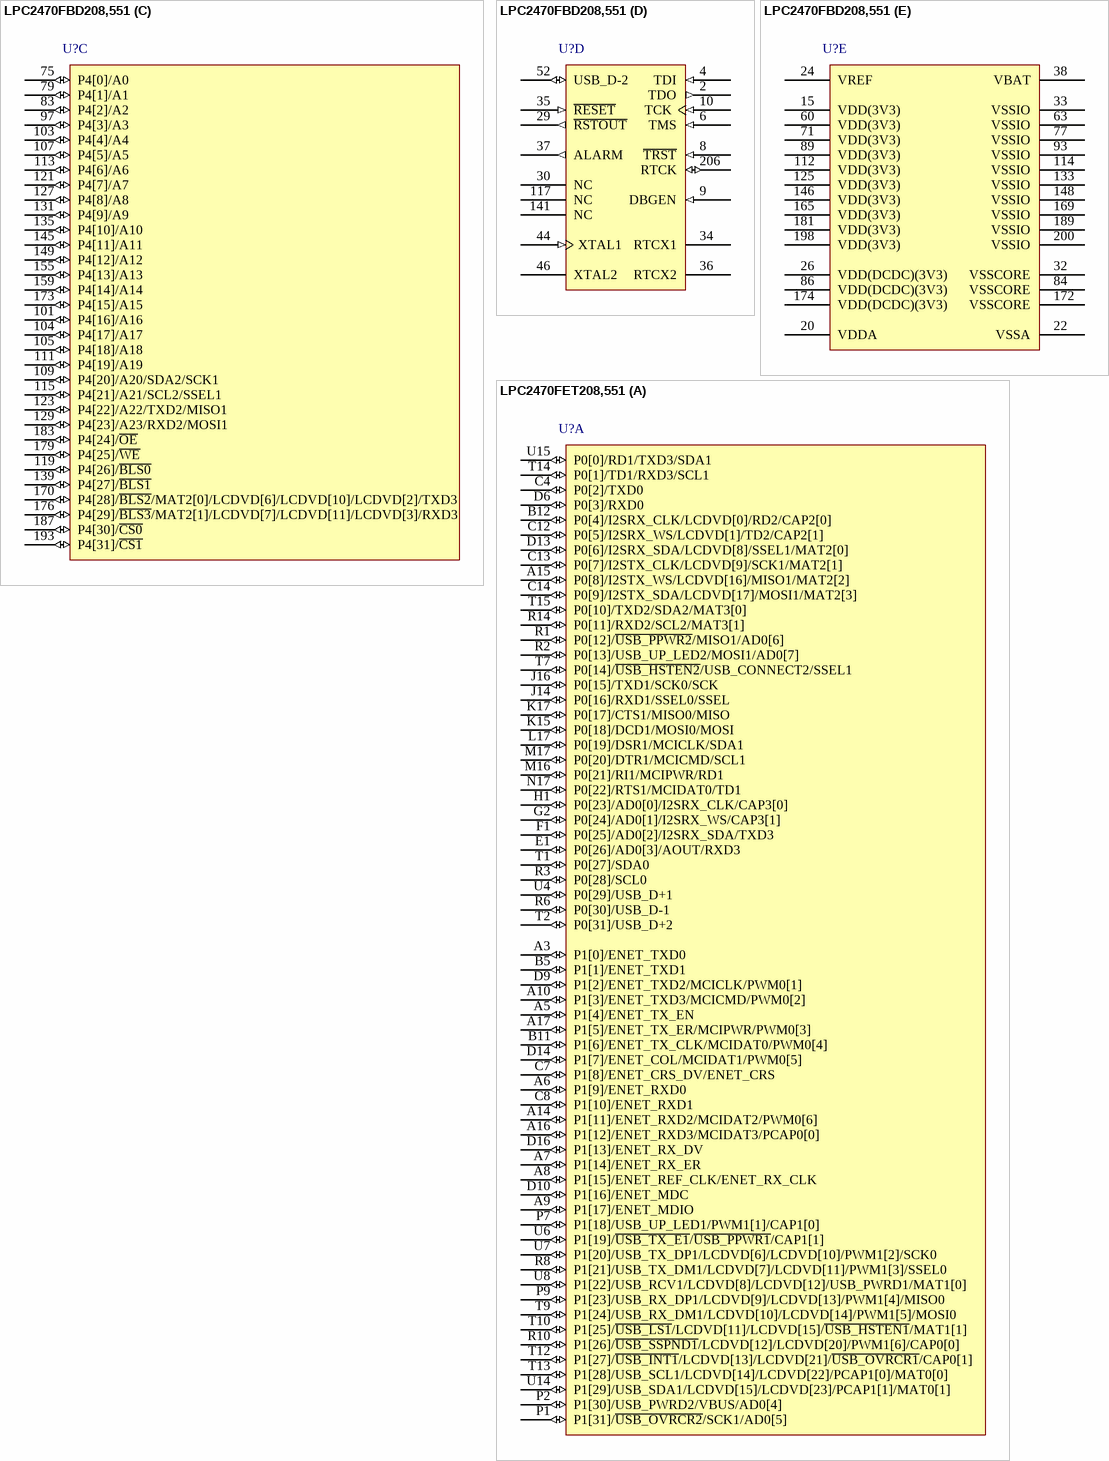
[diagram p31: symbols LPC2470FBD208,551 to LPC2470FET208,551]

## LPC2470FBD208,551
designator U?
16/32-bit ARM7 Microcontroller, 160 I/O, 98 kB RAM, -40 to 85 degC, 208-Pin LQFP, Tray; Manufacturer: NXP Semiconductors; PartNumber: LPC2470FBD208,551; # of timers: 4; ADC (bits): 10; ADC Channels: 8; CAN: 2; Ethernet: 1; fmax [max] (MHz): 72; I/O Pins: 160; I2C: 3; PLL: Y; PWM: 12; RAM (KB): 98; Timer (bits): 32; DatasheetVersion: Rev. 4.1; PackageVersion: Feb-03; PackageReference: SOT459-1; PackageDescription: 208-Pin Plastic Low Profile Quad Flat Package, Body 28 x 28 mm, Pitch 0.5 mm; Supplier 1: Digi-Key; Supplier Part Number 1: 568-4361-ND; Supplier 2: Farnell; Supplier Part Number 2: 2314802; Supplier 3: Newark; Supplier Part Number 3: 95W3360; Supplier 4: Newark; Supplier Part Number 4: 70R5664; Supplier 5: Mouser; Supplier Part Number 5: 771-LPC2470FBD208-S; Core: ARM7; LCD: 1; Packing: Tray; SPI: 1; SSP: 2; UART: 4; USB: 2; Mounting Technology: Surface Mount; Code_JEDEC: MS-026; ComponentLink1Description: Manufacturer URL; ComponentLink1URL: http://www.nxp.com/; ComponentLink2Description: Datasheet; ComponentLink2URL: http://www.nxp.com/documents/data_sheet/LPC2470.pdf; ComponentLink3Description: Package Specification; ComponentLink3URL: http://www.nxp.com/documents/outline_drawing/sot459-1_po.pdf
footprint NXP-SOT459-1_V (QFP, 208-Leads, Body 28x28mm, Pitch 0.5mm)
part A pins: 12 P0[26]/AD0[3]/AOUT/RXD3 (io), 14 P0[25]/AD0[2]/I2SRX_SDA/TXD3 (io), 16 P0[24]/AD0[1]/I2SRX_WS/CAP3[1] (io), 18 P0[23]/AD0[0]/I2SRX_CLK/CAP3[0] (io), 40 P1[31]/~{USB_OVRCR2}/SCK1/AD0[5] (io), 41 P0[12]/~{USB_PPWR2}/MISO1/AD0[6] (io), 42 P1[30]/USB_PWRD2/VBUS/AD0[4] (io), 45 P0[13]/USB_UP_LED2/MOSI1/AD0[7] (io), 48 P0[28]/SCL0 (io), 50 P0[27]/SDA0 (io), 51 P0[31]/USB_D+2 (io), 61 P0[29]/USB_D+1 (io), 62 P0[30]/USB_D-1 (io), 66 P1[18]/USB_UP_LED1/PWM1[1]/CAP1[0] (io), 68 P1[19]/~{USB_TX_E1}/~{USB_PPWR1}/CAP1[1] (io), 69 P0[14]/~{USB_HSTEN2}/USB_CONNECT2/SSEL1 (io), 70 P1[20]/USB_TX_DP1/LCDVD[6]/LCDVD[10]/PWM1[2]/SCK0 (io), 72 P1[21]/USB_TX_DM1/LCDVD[7]/LCDVD[11]/PWM1[3]/SSEL0 (io), 74 P1[22]/USB_RCV1/LCDVD[8]/LCDVD[12]/USB_PWRD1/MAT1[0] (io), 76 P1[23]/USB_RX_DP1/LCDVD[9]/LCDVD[13]/PWM1[4]/MISO0 (io), 78 P1[24]/USB_RX_DM1/LCDVD[10]/LCDVD[14]/PWM1[5]/MOSI0 (io), 80 P1[25]/~{USB_LS1}/LCDVD[11]/LCDVD[15]/~{USB_HSTEN1}/MAT1[1] (io), 82 P1[26]/~{USB_SSPND1}/LCDVD[12]/LCDVD[20]/PWM1[6]/CAP0[0] (io), 88 P1[27]/~{USB_INT1}/LCDVD[13]/LCDVD[21]/~{USB_OVRCR1}/CAP0[1] (io), 90 P1[28]/USB_SCL1/LCDVD[14]/LCDVD[22]/PCAP1[0]/MAT0[0] (io), 92 P1[29]/USB_SDA1/LCDVD[15]/LCDVD[23]/PCAP1[1]/MAT0[1] (io), 94 P0[0]/RD1/TXD3/SDA1 (io), 96 P0[1]/TD1/RXD3/SCL1 (io), 98 P0[10]/TXD2/SDA2/MAT3[0] (io), 100 P0[11]/RXD2/SCL2/MAT3[1] (io), 116 P0[22]/RTS1/MCIDAT0/TD1 (io), 118 P0[21]/RI1/MCIPWR/RD1 (io), 120 P0[20]/DTR1/MCICMD/SCL1 (io), 122 P0[19]/DSR1/MCICLK/SDA1 (io), 124 P0[18]/DCD1/MOSI0/MOSI (io), 126 P0[17]/CTS1/MISO0/MISO (io), 128 P0[15]/TXD1/SCK0/SCK (io), 130 P0[16]/RXD1/SSEL0/SSEL (io), 147 P1[13]/ENET_RX_DV (io), 153 P1[7]/ENET_COL/MCIDAT1/PWM0[5] (io), 156 P1[5]/ENET_TX_ER/MCIPWR/PWM0[3] (io), 157 P1[12]/ENET_RXD3/MCIDAT3/PCAP0[0] (io), 158 P0[9]/I2STX_SDA/LCDVD[17]/MOSI1/MAT2[3] (io), 160 P0[8]/I2STX_WS/LCDVD[16]/MISO1/MAT2[2] (io), 162 P0[7]/I2STX_CLK/LCDVD[9]/SCK1/MAT2[1] (io), 163 P1[11]/ENET_RXD2/MCIDAT2/PWM0[6] (io), 164 P0[6]/I2SRX_SDA/LCDVD[8]/SSEL1/MAT2[0] (io), 166 P0[5]/I2SRX_WS/LCDVD[1]/TD2/CAP2[1] (io), 168 P0[4]/I2SRX_CLK/LCDVD[0]/RD2/CAP2[0] (io), 171 P1[6]/ENET_TX_CLK/MCIDAT0/PWM0[4] (io), 177 P1[3]/ENET_TXD3/MCICMD/PWM0[2] (io), 178 P1[17]/ENET_MDIO (io), 180 P1[16]/ENET_MDC (io), 182 P1[15]/ENET_REF_CLK/ENET_RX_CLK (io), 184 P1[14]/ENET_RX_ER (io), 185 P1[2]/ENET_TXD2/MCICLK/PWM0[1] (io), 186 P1[10]/ENET_RXD1 (io), 188 P1[9]/ENET_RXD0 (io), 190 P1[8]/ENET_CRS_DV/ENET_CRS (io), 192 P1[4]/ENET_TX_EN (io), 194 P1[1]/ENET_TXD1 (io), 196 P1[0]/ENET_TXD0 (io), 202 P0[2]/TXD0 (io), 204 P0[3]/RXD0 (io)
part B pins: 1 P3[12]/D12 (io), 3 P3[3]/D3 (io), 5 P3[28]/D28/CAP1[1]/PWM1[5] (io), 7 P3[13]/D13 (io), 11 P3[29]/D29/MAT1[0]/PWM1[6] (io), 13 P3[4]/D4 (io), 17 P3[5]/D5 (io), 19 P3[30]/D30/MAT1[1]/RTS1 (io), 21 P3[14]/D14 (io), 23 P3[6]/D6 (io), 25 P3[31]/D31/MAT1[2] (io), 27 P3[7]/D7 (io), 28 P3[15]/D15 (io), 31 P2[30]/DQMOUT2/MAT3[2]/SDA2 (io), 39 P2[31]/DQMOUT3/MAT3[3]/SCL2 (io), 43 P2[29]/DQMOUT1 (io), 47 P2[27]/CKEOUT3/MAT3[1]/MOSI0 (io), 49 P2[28]/DQMOUT0 (io), 53 P2[24]/CKEOUT0 (io), 54 P2[25]/CKEOUT1 (io), 55 P3[26]/D26/MAT0[1]/PWM1[3] (io), 56 P3[25]/D25/MAT0[0]/PWM1[2] (io), 57 P2[26]/CKEOUT2/MAT3[0]/MISO0 (io), 58 P3[24]/D24/CAP0[1]/PWM1[1] (io), 59 P2[18]/CLKOUT0 (io), 64 P2[23]/~{DYCS3}/CAP3[1]/SSEL0 (io), 65 P3[23]/D23/CAP0[0]/PCAP1[0] (io), 67 P2[19]/CLKOUT1 (io), 73 P2[20]/~{DYCS0} (io), 81 P2[21]/~{DYCS1} (io), 85 P2[22]/~{DYCS2}/CAP3[0]/SCK0 (io), 87 P2[16]/~{CAS} (io), 91 P2[14]/~{CS2}/CAP2[0]/SDA1 (io), 95 P2[17]/~{RAS} (io), 99 P2[15]/~{CS3}/CAP2[1]/SCL1 (io), 102 P2[13]/~{EINT3}/LCDVD[5]/LCDVD[9]/LCDVD[19]/MCIDAT3/I2STX_SDA (io), 106 P2[12]/~{EINT2}/LCDVD[4]/LCDVD[3]/LCDVD[8]/LCDVD[18]/MCIDAT2/I2STX_WS (io), 108 P2[11]/~{EINT1}/LCDCLKIN/MCIDAT1/I2STX_CLK (io), 110 P2[10]/~{EINT0} (io), 132 P2[9]/USB_CONNECT1/RXD2/EXTIN0/LCDVD[3]/LCDVD[7] (io), 134 P2[8]/TD2/TXD2/TRACEPKT3/LCDVD[2]/LCDVD[6] (io), 136 P2[7]/RD2/RTS1/TRACEPKT2/LCDVD[1]/LCDVD[5] (io), 137 P3[16]/D16/PWM0[1]/TXD1 (io), 138 P2[6]/PCAP1[0]/RI1/TRACEPKT1/LCDVD[0]/LCDVD[4] (io), 140 P2[5]/PWM1[6]/DTR1/TRACEPKT0/LCDLP (io), 142 P2[4]/PWM1[5]/DSR1/TRACESYNC/LCDENAB/LCDM (io), 143 P3[17]/D17/PWM0[2]/RXD1 (io), 144 P2[3]/PWM1[4]/DCD1/PIPESTAT2/LCDFP (io), 150 P2[2]/PWM1[3]/CTS1/PIPESTAT1/LCDDCLK (io), 151 P3[18]/D18/PWM0[3]/CTS1 (io), 152 P2[1]/PWM1[2]/RXD1/PIPESTAT0/LCDLE (io), 154 P2[0]/PWM1[1]/TXD1/TRACECLK/LCDPWR (io), 161 P3[19]/D19/PWM0[4]/DCD1 (io), 167 P3[20]/D20/PWM0[5]/DSR1 (io), 175 P3[21]/D21/PWM0[6]/DTR1 (io), 191 P3[8]/D8 (io), 195 P3[22]/D22/PCAP0[0]/RI1 (io), 197 P3[0]/D0 (io), 199 P3[9]/D9 (io), 201 P3[1]/D1 (io), 203 P3[27]/D27/CAP1[0]/PWM1[4] (io), 205 P3[10]/D10 (io), 207 P3[2]/D2 (io), 208 P3[11]/D11 (io)
part C pins: 75 P4[0]/A0 (io), 79 P4[1]/A1 (io), 83 P4[2]/A2 (io), 97 P4[3]/A3 (io), 101 P4[16]/A16 (io), 103 P4[4]/A4 (io), 104 P4[17]/A17 (io), 105 P4[18]/A18 (io), 107 P4[5]/A5 (io), 109 P4[20]/A20/SDA2/SCK1 (io), 111 P4[19]/A19 (io), 113 P4[6]/A6 (io), 115 P4[21]/A21/SCL2/SSEL1 (io), 119 P4[26]/~{BLS0} (io), 121 P4[7]/A7 (io), 123 P4[22]/A22/TXD2/MISO1 (io), 127 P4[8]/A8 (io), 129 P4[23]/A23/RXD2/MOSI1 (io), 131 P4[9]/A9 (io), 135 P4[10]/A10 (io), 139 P4[27]/~{BLS1} (io), 145 P4[11]/A11 (io), 149 P4[12]/A12 (io), 155 P4[13]/A13 (io), 159 P4[14]/A14 (io), 170 P4[28]/~{BLS2}/MAT2[0]/LCDVD[6]/LCDVD[10]/LCDVD[2]/TXD3 (io), 173 P4[15]/A15 (io), 176 P4[29]/~{BLS3}/MAT2[1]/LCDVD[7]/LCDVD[11]/LCDVD[3]/RXD3 (io), 179 P4[25]/~{WE} (io), 183 P4[24]/~{OE} (io), 187 P4[30]/~{CS0} (io), 193 P4[31]/~{CS1} (io)
part D pins: 2 TDO (out) "TDO — Test Data Out for JTAG interface.", 4 TDI (in) "TDI — Test Data In for JTAG interface.", 6 TMS (in) "TMS - Test Mode Select for JTAG interface.", 8 ~{TRST} (in) "T\R\S\T\ - Test Reset for JTAG interface.", 9 DBGEN (in) "DBGEN — JTAG interface control signal. Also used for boundary scanning.", 10 TCK (in) "TCK - Test Clock for JTAG interface. This clock must be slower than 1⁄6 of the CPU clock (CCLK) for the JTAG interface to operate.", 29 ~{RSTOUT} (out) "R\S\T\O\U\T\ - This is a 3.3 V pin. LOW on this pin indicates LPC2470 being in Reset state.", 30 NC "not connected pins: These pins must be left unconnected (floating).", 34 RTCX1 "Input to the RTC oscillator circuit.", 35 ~{RESET} (in) "external reset input: A LOW on this pin resets the device, causing I/O ports and peripherals to take on their default states, and processor execution to begin at address 0. TTL with hysteresis, 5 V tolerant.", 36 RTCX2 "Output from the RTC oscillator circuit.", 37 ALARM (out) "ALARM - RTC controlled output. This is a 1.8 V pin. It goes HIGH when a RTC alarm is generated.", 44 XTAL1 (in) "Input to the oscillator circuit and internal clock generator circuits.", 46 XTAL2 "Output from the oscillator amplifier.", 52 USB_D-2 (io) "USB_D-2 - USB port 2 bidirectional D- line.", 117 NC "not connected pins: These pins must be left unconnected (floating).", 141 NC "not connected pins: These pins must be left unconnected (floating).", 206 RTCK (io) "RTCK - JTAG interface control signal.Note: LOW on this pin while R\E\S\E\T\ is LOW enables ETM pins (P2[9:0]) to operate as Trace port after reset."
part E pins: 15 VDD(3V3) (power) "3.3 V supply voltage: This is the power supply voltage for the I/O ports.", 20 VDDA (power) "analog 3.3 V pad supply voltage: This should be nominally the same voltage as VDD(3V3) but should be isolated to minimize noise and error. This voltage is used to power the ADC and DAC.", 22 VSSA (power) "analog ground: 0 V reference. This should nominally be the same voltage as VSSIO/VSSCORE, but should be isolated to minimize noise and error.", 24 VREF "ADC reference: This should be nominally the same voltage as VDD(3V3) but should be isolated to minimize noise and error. The level on this pin is used as a reference for ADC and DAC.", 26 VDD(DCDC)(3V3) (power) "3.3 V DC-to-DC converter supply voltage: This is the power supply for the on-chip DC-to-DC converter.", 32 VSSCORE (power) "ground: 0 V reference for the core.", 33 VSSIO (power) "ground: 0 V reference for the digital IO pins.", 38 VBAT (power) "RTC power supply: 3.3 V on this pin supplies the power to the RTC peripheral.", 60 VDD(3V3) (power) "3.3 V supply voltage: This is the power supply voltage for the I/O ports.", 63 VSSIO (power) "ground: 0 V reference for the digital IO pins.", 71 VDD(3V3) (power) "3.3 V supply voltage: This is the power supply voltage for the I/O ports.", 77 VSSIO (power) "ground: 0 V reference for the digital IO pins.", 84 VSSCORE (power) "ground: 0 V reference for the core.", 86 VDD(DCDC)(3V3) (power) "3.3 V DC-to-DC converter supply voltage: This is the power supply for the on-chip DC-to-DC converter.", 89 VDD(3V3) (power) "3.3 V supply voltage: This is the power supply voltage for the I/O ports.", 93 VSSIO (power) "ground: 0 V reference for the digital IO pins.", 112 VDD(3V3) (power) "3.3 V supply voltage: This is the power supply voltage for the I/O ports.", 114 VSSIO (power) "ground: 0 V reference for the digital IO pins.", 125 VDD(3V3) (power) "3.3 V supply voltage: This is the power supply voltage for the I/O ports.", 133 VSSIO (power) "ground: 0 V reference for the digital IO pins.", 146 VDD(3V3) (power) "3.3 V supply voltage: This is the power supply voltage for the I/O ports.", 148 VSSIO (power) "ground: 0 V reference for the digital IO pins.", 165 VDD(3V3) (power) "3.3 V supply voltage: This is the power supply voltage for the I/O ports.", 169 VSSIO (power) "ground: 0 V reference for the digital IO pins.", 172 VSSCORE (power) "ground: 0 V reference for the core.", 174 VDD(DCDC)(3V3) (power) "3.3 V DC-to-DC converter supply voltage: This is the power supply for the on-chip DC-to-DC converter.", 181 VDD(3V3) (power) "3.3 V supply voltage: This is the power supply voltage for the I/O ports.", 189 VSSIO (power) "ground: 0 V reference for the digital IO pins.", 198 VDD(3V3) (power) "3.3 V supply voltage: This is the power supply voltage for the I/O ports.", 200 VSSIO (power) "ground: 0 V reference for the digital IO pins."

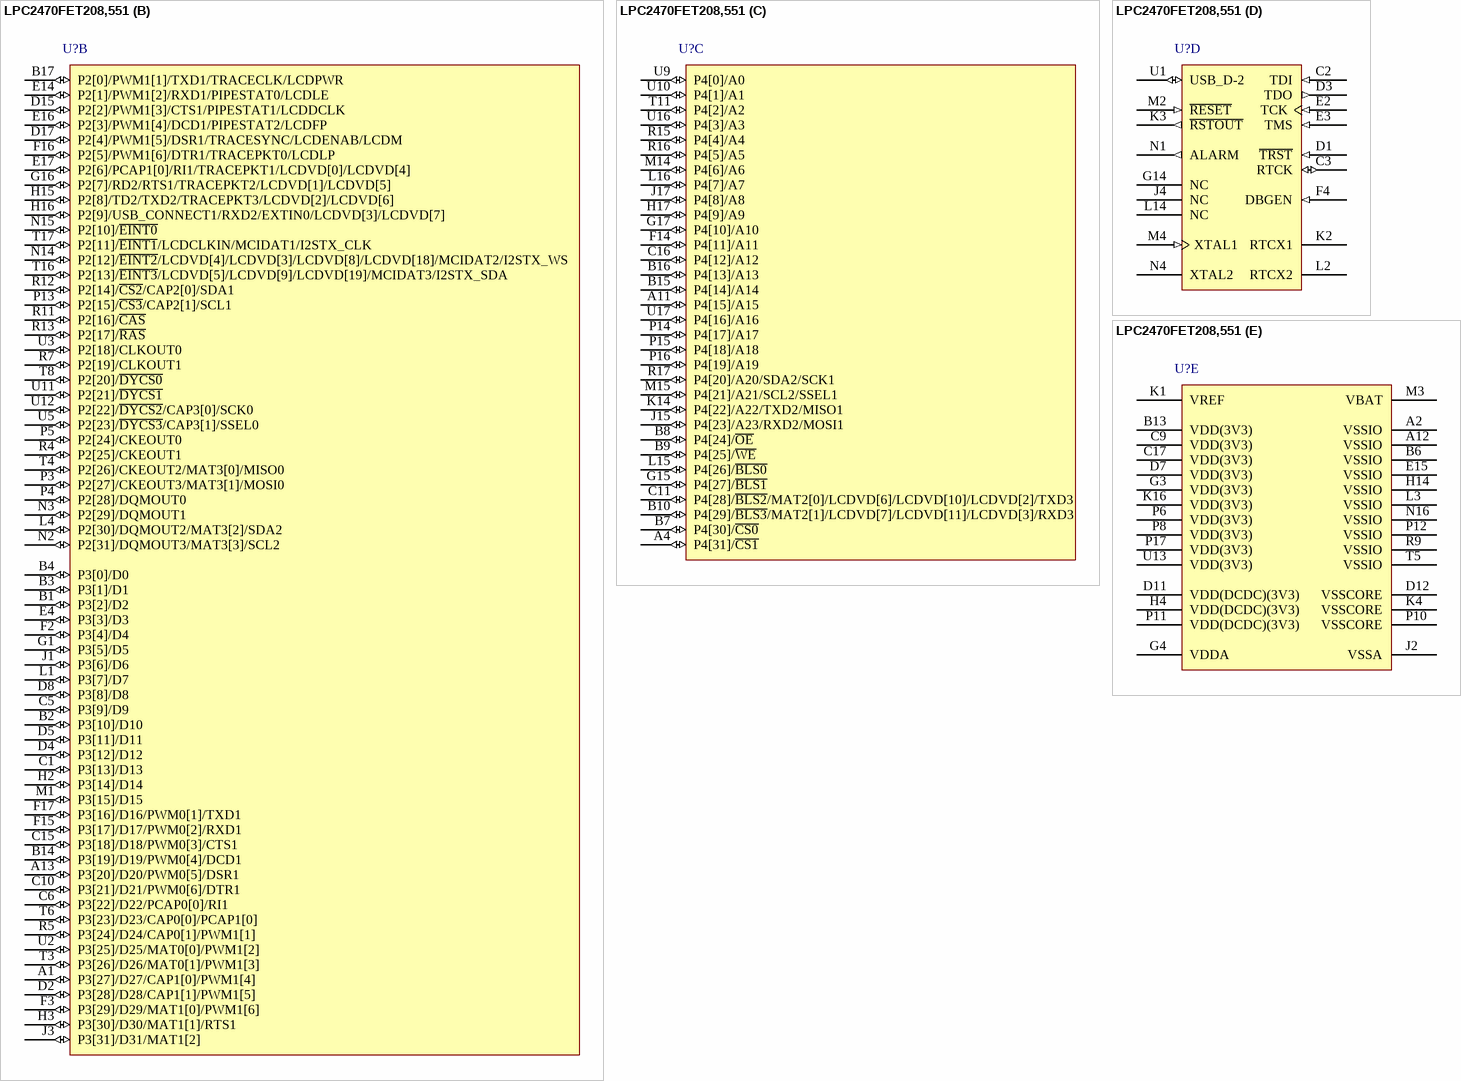
[diagram p32: symbol LPC2470FET208,551]